# EAGLE library part 3.5MMJACK (library ForApos)
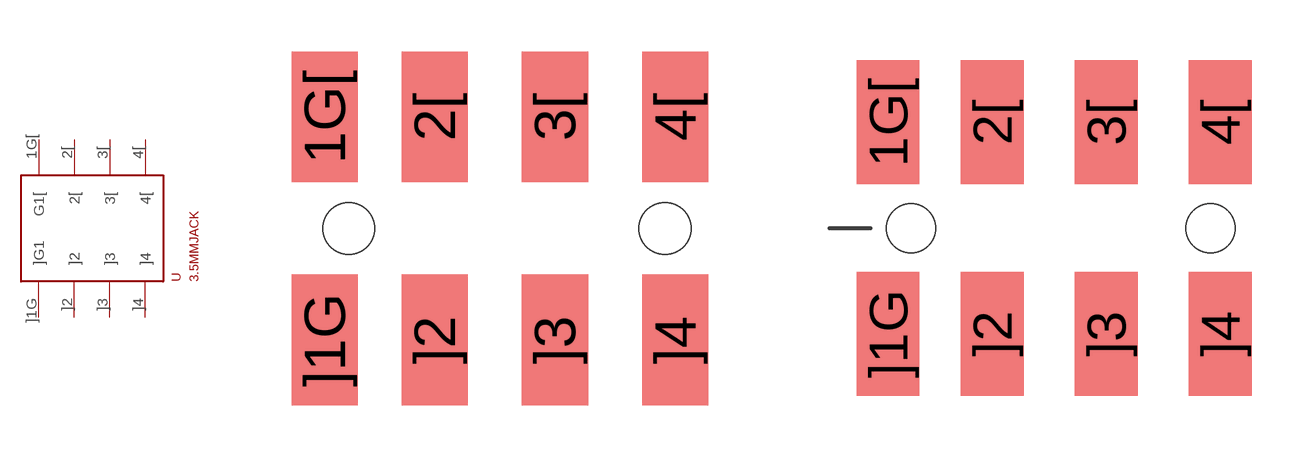
[diagram p3: symbol with the pads of 3.5J4CH; footprints 3.5J4CH, 3.5J4CH.CLEAN]

Designator prefix -

## 3.5MMJACK  [3.5J4CH]
1G[  G1[
2[  2[
3[  3[
4[  4[
]1G  ]G1
]2  ]2
]3  ]3
]4  ]4

## 3.5MMJACKCLEAN  [3.5J4CH.CLEAN]
Pads as for 3.5J4CH

## Footprint 3.5J4CH (pad centres in mm)
smd 1.93 x 3.81: 1G[ 1.8,3.25; 2[ 5,3.25; 3[ 8.5,3.25; 4[ 12,3.25; ]1G 1.8,-3.25; ]2 5,-3.25; ]3 8.5,-3.25; ]4 12,-3.25
hole 1.5 at 2.5,0
hole 1.5 at 11.7,0

## Footprint 3.5J4CH.CLEAN (pad centres in mm)
smd 1.93 x 3.81: 1G[ 1.8,3.25; 2[ 5,3.25; 3[ 8.5,3.25; 4[ 12,3.25; ]1G 1.8,-3.25; ]2 5,-3.25; ]3 8.5,-3.25; ]4 12,-3.25
hole 1.5 at 2.5,0
hole 1.5 at 11.7,0